# Altium schematic symbol library CN_2P.SchLib: 1 symbol
Pins are listed as number, name and electrical type; pins without a type are passive.

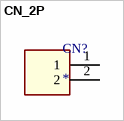
[diagram p0: symbol CN_2P]

## CN_2P
designator CN?
pins: 1, 2